# Altium footprint library Diodes.PcbLib: 15 footprints
Each footprint in its own frame and in the unit in brackets; x right, y up, seen from the top. Pads: shape width x height; smd on the part's side, far side on the other; paste and mask are expansions set on the pad; w line width, h text height; cw(c..) or ccw(c..) is an arc to the next point about the centre after c.
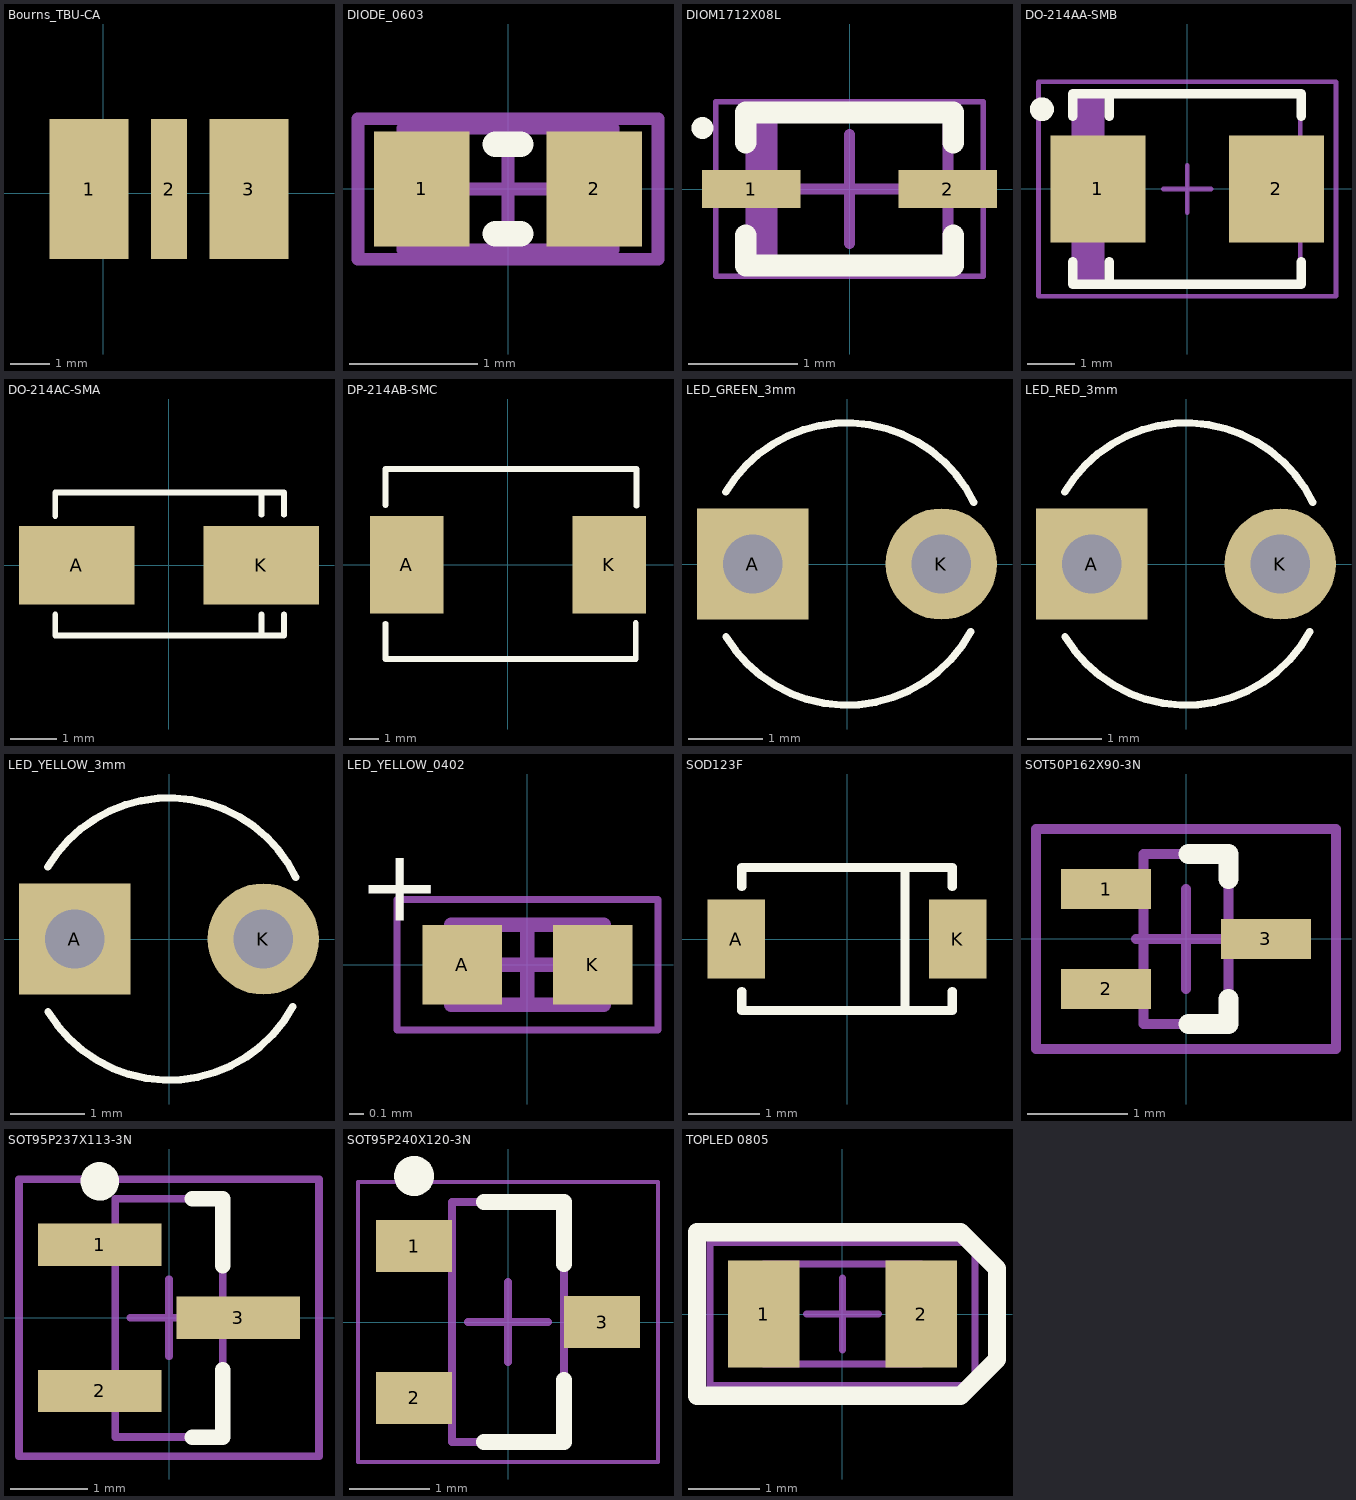
[diagram p0: the footprints below, top view; thin cyan lines are the x and y axes]

## Bourns_TBU-CA [mm] "TBU-CA Series - TBU  ®   High-Speed Protectors"
height 1
pads (3):
  rect 2x3.55 smd: 1(-0.356,0.102) 3(3.694,0.102)
  rect 0.9x3.55 smd: 2(1.669,0.102)
3D body "tbu-ca.stp": height 0.85, standoff -0.03, extent -1.58,-1.898 4.92,2.102

## DIODE_0603 [mm] "Chip Diode, 2-Leads, Body 1,6x0,8mm, IPC High Density"
height 0.48
pads (2):
  rect 0.75x0.9 smd: 1(-0.675,0) 2(0.675,0)
Top Overlay:
  lines w0.2: -0.1,-0.35 0.1,-0.35 ; -0.1,0.35 0.1,0.35
Mechanical 13:
  lines w0.1: -0.825,-0.475 -0.825,0.475 0.825,0.475 0.825,-0.475 -0.825,-0.475
Mechanical 15:
  lines w0.1: -0.475,0 0.475,0 ; 0,-0.475 0,0.475 ; -1.175,-0.55 -1.175,0.55 1.175,0.55 1.175,-0.55 -1.175,-0.55
3D body "User Library-RESC1608X05N.STEP": height 0.45, standoff 0, extent -0.825,-0.475 0.725,0.375

## DIOM1712X08L [mm] "Molded Diode, 2-Leads, Body 1.70x1.25mm, IPC High Density"
height 0.8
pads (2):
  rect 0.9x0.35 smd: 1(-0.9,0) 2(0.9,0)
Top Overlay:
  circle w0.1: c-1.346,0.559 r0.05
  lines w0.2: -0.95,-0.425 -0.95,-0.7 0.95,-0.7 0.95,-0.425 ; -0.95,0.425 -0.95,0.7 0.95,0.7 0.95,0.425
Mechanical 13:
  rectangle: -0.9,-0.675 -0.658,0.675
  lines w0.1: -0.9,-0.675 -0.9,0.675 0.9,0.675 0.9,-0.675 -0.9,-0.675
Mechanical 15:
  lines w0.05: -1.225,-0.8 -1.225,0.8 1.225,0.8 1.225,-0.8 -1.225,-0.8
  lines w0.1: -0.5,0 0.5,0 ; 0,-0.5 0,0.5
3D body "User Library-SOD323.STEP": height 1, standoff 0.01, extent -1.25,-0.64 1.25,0.61

## DO-214AA-SMB [mm] "Molded Diode, 2-Leads, IPC Medium Density"
height 1.35
pads (2):
  rect 2x2.25 smd: 1(-1.875,0) 2(1.875,0)
Top Overlay:
  circle w0.25: c-3.05,1.675 r0.125
  lines w0.2: -2.4,-1.525 -2.4,-2 2.4,-2 2.4,-1.525 ; -2.4,1.525 -2.4,2 2.4,2 2.4,1.525 ; -1.638,-2 -1.638,-1.525 ; -1.638,1.525 -1.638,2
Mechanical 13:
  rectangle: -2.375,-1.975 -1.736,1.975
  lines w0.1: -2.375,-1.975 -2.375,1.975 2.375,1.975 2.375,-1.975 -2.375,-1.975
Mechanical 15:
  lines w0.1: -0.5,0 0.5,0 ; 0,-0.5 0,0.5 ; -3.125,-2.25 -3.125,2.25 3.125,2.25 3.125,-2.25 -3.125,-2.25
3D body "User Library-DIOM5539X24.STEP": height 2.45, standoff 0.03, extent -2.75,-2.032 2.75,1.868

## DO-214AC-SMA [mm]
pads (2):
  rect 2.5x1.7 smd: A(-2,0) K(2,0)
Top Overlay:
  lines w0.127: -2.464,-1.067 -2.464,-1.524 2.489,-1.524 2.489,-1.067 ; -2.464,1.067 -2.464,1.575 2.489,1.575 2.489,1.092 ; 2.007,-1.524 2.007,-1.067 ; 2.007,1.092 2.007,1.575
3D body "User Library-DIOM5528X26.step": height 2.6, standoff 0.03, extent -2.75,-1.372 2.75,1.428

## DP-214AB-SMC [mm]
pads (2):
  rect 2.5x3.3 smd: A(-3.45,0) K(3.45,0)
Top Overlay:
  lines w0.2: -4.166,-2.007 -4.166,-3.2 4.343,-3.2 4.343,-1.981 ; -4.166,2.032 -4.166,3.251 4.369,3.251 4.369,2.007
3D body "User Library-DIOM8261X24.step": height 2.4, standoff 0.03, extent -4.039,-3.024 4.091,3.076

## LED_GREEN_3mm [mm]
pads (2):
  rect 1.5x1.5 hole 0.8: A(-1.27,0)
  round 1.5 hole 0.8: K(1.27,0)
Top Overlay:
  lines w0.1: -1.634,0.97 cw(c0,0) 1.71,0.829 ; -1.629,-0.978 ccw(c0,0) 1.668,-0.91
3D body "SW3dPS-LEDd3G.STEP": height 5.51, standoff -2.49, extent -1.664,-1.654 1.636,1.646

## LED_RED_3mm [mm]
pads (2):
  rect 1.5x1.5 hole 0.8: A(-1.27,0)
  round 1.5 hole 0.8: K(1.27,0)
Top Overlay:
  lines w0.1: -1.634,0.97 cw(c0,0) 1.71,0.829 ; -1.629,-0.978 ccw(c0,0) 1.668,-0.91
3D body "SW3dPS-LEDd3R.STEP": height 5.51, standoff -2.49, extent -1.65,-1.624 1.65,1.676

## LED_YELLOW_3mm [mm]
pads (2):
  rect 1.5x1.5 hole 0.8: A(-1.27,0)
  round 1.5 hole 0.8: K(1.27,0)
Top Overlay:
  lines w0.1: -1.634,0.97 cw(c0,0) 1.71,0.829 ; -1.629,-0.978 ccw(c0,0) 1.668,-0.91
3D body "SW3dPS-LEDd3Y.STEP": height 5.51, standoff -2.49, extent -1.664,-1.654 1.636,1.646

## LED_YELLOW_0402 [mm]
height 0.4
pads (2):
  rect 0.55x0.55 smd: A(-0.45,0) K(0.45,0)
Top Overlay:
  text "+" at -1.168,0.305 h0.5
Mechanical 13:
  lines w0.1: -0.525,-0.275 0.525,-0.275 0.525,0.275 -0.525,0.275 -0.525,-0.275
Mechanical 15:
  lines w0.05: -0.9,-0.45 0.9,-0.45 0.9,0.45 -0.9,0.45 -0.9,-0.45
  lines w0.1: -0.275,0 0.275,0 ; 0,-0.275 0,0.275
3D body "User Library-LED_1006_Y.STEP": height 0.2, standoff 0, extent -0.5,-0.3 0.5,0.3

## SOD123F [mm]
pads (2):
  rect 0.8x1.1 smd: A(-1.55,0) K(1.55,0)
Top Overlay:
  lines w0.127: -1.473,-0.737 -1.473,-1 1.473,-1 1.473,-0.737 ; -1.473,0.737 -1.473,1 1.473,1 1.473,0.737 ; 0.813,-0.991 0.813,0.975
3D body "User Library-SOD-123FL CASE 498.step": height 0.95, standoff 0, extent -1.8,-0.825 1.8,0.825

## SOT50P162X90-3N [mm] "SOT23, 3-Leads, Body 1,7x1,8mm (max), Pitch 0,50mm, IPC Medium Density"
height 0.9
pads (3):
  rect 0.9x0.4 smd: 1(-0.8,0.5) 2(-0.8,-0.5) 3(0.8,0)
Top Overlay:
  lines w0.2: 0.025,-0.85 0.425,-0.85 0.425,-0.6 ; 0.025,0.85 0.425,0.85 0.425,0.6
Mechanical 13:
  lines w0.1: -0.425,-0.85 0.425,-0.85 0.425,0.85 -0.425,0.85 -0.425,-0.85
Mechanical 15:
  lines w0.1: -0.5,0 0.5,0 ; 0,-0.5 0,0.5 ; -1.5,-1.1 1.5,-1.1 1.5,1.1 -1.5,1.1 -1.5,-1.1
3D body "User Library-SOT-523.STEP": height 0.8, standoff 0, extent -0.8,-0.838 0.8,0.762

## SOT95P237X113-3N [mm] "SOT23, 3-Leads, Body 3,1x2,6mm (max), Pitch 0,95mm, IPC Medium Density"
height 1.13
pads (3):
  rect 1.6x0.55 smd: 1(-0.9,0.95) 2(-0.9,-0.95) 3(0.9,0)
Top Overlay:
  circle w0.25: c-0.9,1.775 r0.125
  lines w0.2: 0.3,-1.55 0.7,-1.55 0.7,-0.675 ; 0.3,1.55 0.7,1.55 0.7,0.675
Mechanical 13:
  lines w0.1: -0.7,-1.55 0.7,-1.55 0.7,1.55 -0.7,1.55 -0.7,-1.55
Mechanical 15:
  lines w0.1: -0.5,0 0.5,0 ; 0,-0.5 0,0.5 ; -1.95,-1.8 1.95,-1.8 1.95,1.8 -1.95,1.8 -1.95,-1.8
3D body "User Library-SOT95P240X110-3M[SOT23-3_TO-236AB].STEP": height 1.09, standoff 0, extent -1.25,-1.476 1.25,1.524

## SOT95P240X120-3N [mm] "SOT23, 3-Leads, Body 2.90x2.40mm, Pitch 0.95mm, IPC Medium Density"
height 1.2
pads (3):
  rect 0.95x0.65 smd: 1(-1.175,0.95) 2(-1.175,-0.95) 3(1.175,0)
Top Overlay:
  circle w0.25: c-1.175,1.825 r0.125
  lines w0.2: -0.3,-1.5 0.7,-1.5 0.7,-0.725 ; -0.3,1.5 0.7,1.5 0.7,0.725
Mechanical 13:
  lines w0.1: -0.7,-1.5 -0.7,1.5 0.7,1.5 0.7,-1.5 -0.7,-1.5
Mechanical 15:
  lines w0.05: -1.875,-1.75 -1.875,1.75 1.875,1.75 1.875,-1.75 -1.875,-1.75
  lines w0.1: -0.5,0 0.5,0 ; 0,-0.5 0,0.5
3D body "User Library-SOT23-3.step": height 1.3, standoff 0, extent -1.425,-1.45 1.375,1.45

## TOPLED 0805 [mm]
pads (2):
  rect 1x1.5 smd: 1(-1.1,0) 2(1.1,0)
Top Overlay:
  lines w0.254: -2.032,-1.143 -2.032,1.143 1.651,1.143 2.159,0.635 2.159,-0.635 1.651,-1.143 -2.032,-1.143
Mechanical 13:
  lines w0.1: -1.1,-0.7 1.1,-0.7 1.1,0.7 -1.1,0.7 -1.1,-0.7
Mechanical 15:
  lines w0.1: -0.5,0 0.5,0 ; 0,-0.5 0,0.5 ; -1.85,-1 1.85,-1 1.85,1 -1.85,1 -1.85,-1
3D body "SW3dPS-LED_M676.STEP": height 1.45, standoff 0, extent -1.2,-0.738 1.2,0.762